# Altium integrated library AMS1117-3V3.IntLib: 1 symbol
Pins are listed as number, name and electrical type; pins without a type are passive.

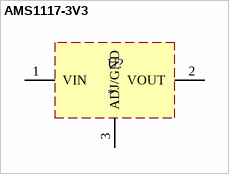
[diagram p0: symbol AMS1117-3V3]

## AMS1117-3V3
designator U?
footprint SOT229P700X180-4N (SOT223, 4-Leads, Body 6.51x7.00mm (avg), Pitch 2.29mm, IPC Medium Density)
pins: 1 VIN, 2 VOUT, 3 ADJ/GND